# Altium schematic symbol library Cole_.SchLib: 330 symbols (part 9 of 10)
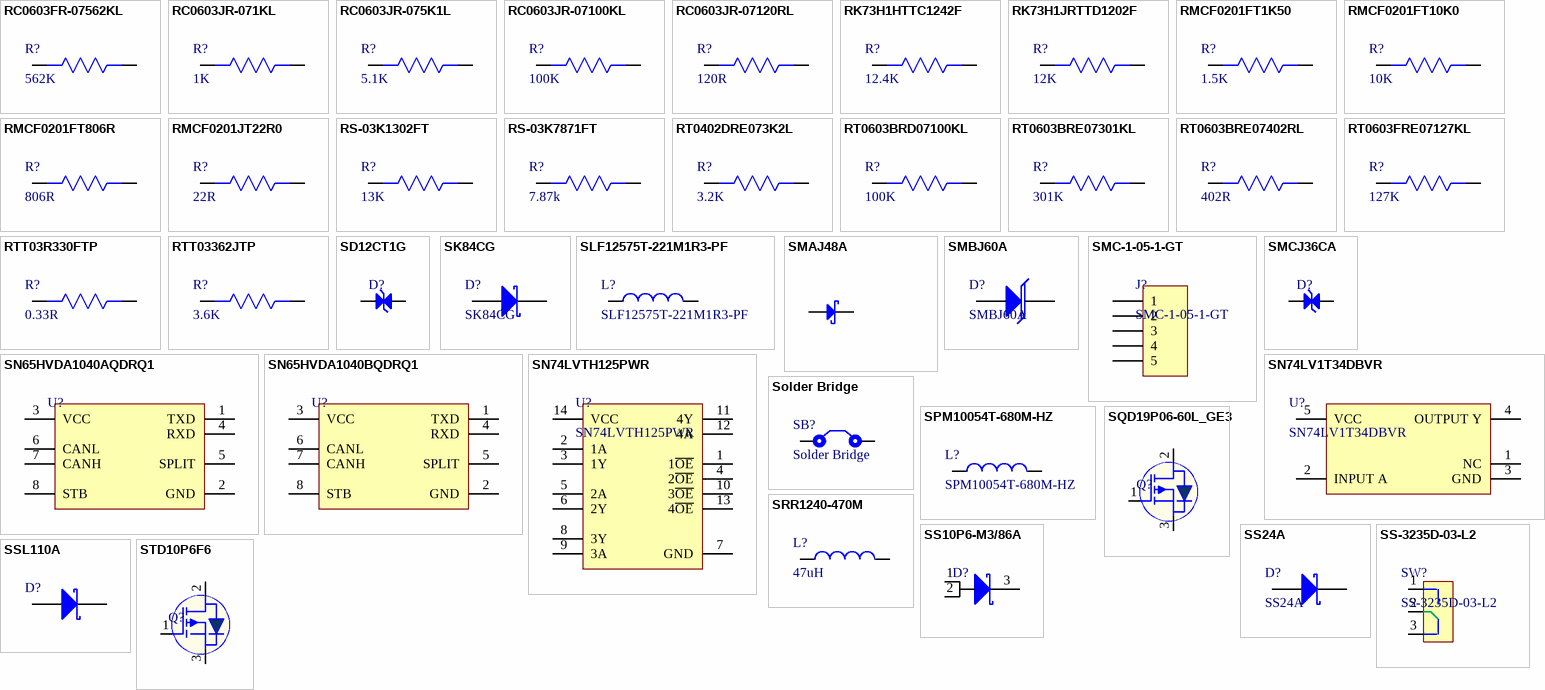
[diagram p16: symbols RC0603FR-07562KL to STD10P6F6]

## SN65HVDA1040BQDRQ1
designator U?
IC TRANSCEIVER 1/1 8SOIC; Manufacturer: Texas Instruments; Manufacturer Part Number: SN65HVDA1040BQDRQ1; Supplier 1: Digi-Key; RoHS: Yes; Stock 1: 1902; Pricing 1: 1=1.92000, 10=1.72800, 25=1.62960, 100=1.38850, 250=1.30380, 500=1.14082, 1000=1.02705 (USD); Supplier Part Number 1: 296-SN65HVDA1040BQDRQ1CT-ND
footprint SOIC-8
pins: 1 TXD, 2 GND, 3 VCC, 4 RXD, 5 SPLIT, 6 CANL, 7 CANH, 8 STB

## SN74LV1T34DBVR
designator U?
IC BUF NON-INVERT 5.5V SOT23-5; Manufacturer: Texas Instruments; Number of Elements: 1; Logic Function: Buffer,Inverting; High Level Output Current: -8mA; Low Level Output Current: 8mA; Min Supply Voltage: 1.6V; Polarity: Non-Inverting; Propagation Delay: 15.5ns; Quiescent Current: 1uA; Supplier 1: Digi-Key; Manufacturer Part Number: SN74LV1T34DBVR; Stock 1: 37360; Pricing 1: 1=0.43, 10=0.349, 25=0.3192, 100=0.2374, 250=0.2152, 500=0.17808, 1000=0.13356 (USD); Mount: Surface Mount; Case/Package: SOT-23-5; Number of Pins: 5; Weight: 0.000353oz; Min Operating Temperature: -40°C; Max Operating Temperature: 125°C; Packaging: Tape and Reel; Number of Bits per Element: 1; Number of Bits: 1; Package Quantity: 3000; Max Supply Voltage: 5.5V; Number of Input Lines: 1; Number of Output Lines: 1; Operating Supply Current: 8mA; Number of Channels: 1; Number of Inputs: 1; Number of Outputs: 1; Radiation Hardening: No; RoHS Compliant: Yes; REACH SVHC: No SVHC; Lead Free: Lead Free; ComponentLink1URL: http://www.ti.com/lit/pdf/sdyu001?src-supplier=Digi-Key; ComponentLink1Description: http://www.ti.com/lit/pdf/sdyu001?src-supplier=Digi-Key; ComponentLink2URL: http://www.ti.com/lit/ds/symlink/sn74lv1t34.pdf?src-supplier=Avnet; ComponentLink2Description: http://www.ti.com/lit/ds/symlink/sn74lv1t34.pdf?src-supplier=Avnet; Supplier Part Number 1: 296-37176-6-ND
footprint SOT-23-5
pins: 1 NC, 2 INPUT A, 3 GND, 4 OUTPUT Y, 5 VCC

## SN74LVTH125PWR
designator U?
IC BUS BUFFER TRI-ST QD 14TSSOP; Manufacturer: Texas Instruments; Logic Function: Buffer,Inverting; Polarity: Non-Inverting; Propagation Delay: 2.1ns; Min Supply Voltage: 2.7V; Max Supply Voltage: 3.6V; Number of Channels: 4; Operating Supply Voltage: 3.3V; Number of Bits per Element: 1; High Level Output Current: -32mA; Low Level Output Current: 64mA; Quiescent Current: 7mA; Number of Output Lines: 3; Supplier 1: Digi-Key; Manufacturer Part Number: SN74LVTH125PWR; RoHS: Yes; Category: Logic Gates; Stock 1: 980; Pricing 1: 1=0.64000, 10=0.56000, 25=0.52560, 100=0.42910, 250=0.39856, 500=0.33920, 1000=0.28000 (USD); Mount: Surface Mount; Case/Package: TSSOP; Number of Pins: 14; Contact Plating: Gold; Min Operating Temperature: -40°C; Max Operating Temperature: 85°C; Packaging: Tape and Reel; Number of Outputs: 4; Package Quantity: 2000; Number of Elements: 4; Turn-On Delay Time: 2.1ns; Number of Bits: 4; Number of Inputs: 4; Number of Input Lines: 4; Number of Gates: 4; Output Current: 64mA; Length: 5mm; Width: 4.4mm; Height: 1.15mm; Radiation Hardening: No; Lead Free: Lead Free; RoHS Compliant: Yes; REACH SVHC: No SVHC; ComponentLink1URL: https://datasheet.ciiva.com/41455/001017258-da-01-en-ic-bus-buf-q-sn74lvth125pwr-tssop-14-tid-41455824.pdf?src-supplier=Conrad; ComponentLink1Description: https://datasheet.ciiva.com/41455/001017258-da-01-en-ic-bus-buf-q-sn74lvth125pwr-tssop-14-tid-41455824.pdf?src-supplier=Conrad; ComponentLink2URL: https://datasheet.ciiva.com/46442/1764295-46442090.pdf?src-supplier=Element14; ComponentLink2Description: https://datasheet.ciiva.com/46442/1764295-46442090.pdf?src-supplier=Element14; ComponentLink3URL: https://datasheet.ciiva.com/1834/sn74lvth125-1834408.pdf?src-supplier=Digi-Key; ComponentLink3Description: https://datasheet.ciiva.com/1834/sn74lvth125-1834408.pdf?src-supplier=Digi-Key; ComponentLink4URL: https://datasheet.ciiva.com/1834/sn74lvth125-1834407.pdf?src-supplier=Digi-Key; ComponentLink4Description: https://datasheet.ciiva.com/1834/sn74lvth125-1834407.pdf?src-supplier=Digi-Key; ComponentLink5URL: https://datasheet.ciiva.com/7795/sn74lvth125-7795066.pdf?src-supplier=Element14; ComponentLink5Description: https://datasheet.ciiva.com/7795/sn74lvth125-7795066.pdf?src-supplier=Element14; ComponentLink6URL: https://datasheet.ciiva.com/14301/scbs703i-14301146.pdf?src-supplier=Avnet; ComponentLink6Description: https://datasheet.ciiva.com/14301/scbs703i-14301146.pdf?src-supplier=Avnet; ComponentLink7URL: https://datasheet.ciiva.com/26263/sn74lvth125-26263836.pdf?src-supplier=Avnet+Europe; ComponentLink7Description: https://datasheet.ciiva.com/26263/sn74lvth125-26263836.pdf?src-supplier=Avnet+Europe; Supplier Part Number 1: 296-8660-1-ND
footprint SN74LVTH125PWR
pins: 1 1~{OE}, 2 1A, 3 1Y, 4 2~{OE}, 5 2A, 6 2Y, 7 GND, 8 3Y, 9 3A, 10 3~{OE}, 11 4Y, 12 4A, 13 4~{OE}, 14 VCC

## Solder Bridge
designator SB?
Solder Bridge ON
footprint Solder Bridge (Solder Bridge ON)
pins: 1, 2

## SPM10054T-680M-HZ
designator L?
FIXED IND 68UH 3.7A 162.87MOHM; Manufacturer: TDK; Core Material: Metal; Tolerance: 20%; Saturation Current: 1.7A; Shielding: Shielded; DC Resistance (DCR): 162.87mR; Test Frequency: 100kHz; Supplier 1: Digi-Key; Manufacturer Part Number: SPM10054T-680M-HZ; RoHS: Yes; Category: Fixed Inductors; Stock 1: 883; Pricing 1: 1=2.75000, 10=2.54100, 25=2.32920, 50=1.99040, 100=1.77870, 250=1.52460 (USD); Mount: Surface Mount; Case/Package: Nonstandard; Min Operating Temperature: -40°C; Max Operating Temperature: 125°C; Resistor Type: Wirewound; Packaging: Cut Tape; Inductance: 68uH; Current Rating: 3.7A; Ratings: AEC-Q200; RoHS Compliant: Yes; ComponentLink1URL: https://product.tdk.com/info/en/catalog/datasheets/inductor_automotive_power_spm10054-hz_en.pdf?src-supplier=Digi-Key; ComponentLink1Description: https://product.tdk.com/info/en/catalog/datasheets/inductor_automotive_power_spm10054-hz_en.pdf?src-supplier=Digi-Key; Supplier Part Number 1: 445-180256-1-ND
footprint SPM10054T-680M-HZ
pins: 1, 2

## SQD19P06-60L_GE3
designator Q?
MOSFET P-CH 60V 20A TO252 /; Manufacturer: Vishay; Manufacturer Part Number: SQD19P06-60L_GE3; Description: P-Channel 60-V (D-S), 175C Mosfet Rohs Compliant: Yes |Vishay SQD19P06-60L_GE3; Supplier: Mouser; Supplier Part Number: 78-SQD19P06-60L_GE3; RoHS: No; Item Type: MOSFET; Stock: 12758; Pricing: 1=1.53, 10=1.25, 50=1.25, 100=0.979, 1000=0.676, 10000=0.578 (USD); ComponentLink1URL: https://datasheet.octopart.com/SQD19P06-60L_GE3-Vishay-datasheet-130066227.pdf?src-supplier=TME; ComponentLink1Description: https://datasheet.octopart.com/SQD19P06-60L_GE3-Vishay-datasheet-130066227.pdf?src-supplier=TME; LCSC Part Number: C143665
footprint DPAK
pins: 1 G, 2 D, 3 S

## SRR1240-470M
designator L?, comment 47uH
Fixed Inductors 47uH 20% SMD 1240; Manufacturer: Bourns; Manufacturer Part Number: SRR1240-470M; Core Material: Ferrite; Material: Steel; DC Resistance (DCR): 135mR; Max DC Current: 2A; Shielding: Shielded; Test Frequency: 100kHz; Self Resonant Frequency: 13MHz; Q Factor: 19; Saturation Current: 1.8A; Supplier 1: Digi-Key; RoHS: Yes; Category: Fixed Inductors; Stock 1: 1851; Pricing 1: 1=1.19000, 10=1.10800, 25=1.02320, 50=0.85240, 100=0.80140, 250=0.71608 (USD); Mount: Surface Mount; Case/Package: Nonstandard; Min Operating Temperature: -40°C; Max Operating Temperature: 125°C; Tolerance: 20%; Inductance: 47uH; Packaging: Cut Tape; Package Quantity: 800; Termination: SMD/SMT; Current Rating: 2A; Inductance Tolerance: 20%; DC Current: 2A; RMS Current (Irms): 2A; Series: SRR1240; Resistor Type: Wirewound; Frequency: 13MHz; Resistance: 135MR; Sample Rate (Hz): 100kHz; Length: 12.5mm; Width: 12.5mm; Height: 4mm; Depth: 12.8mm; Height - Seated (Max): 0.177inch; Radiation Hardening: No; REACH SVHC: No SVHC; Military Standard: Not; RoHS Compliant: Yes; ComponentLink1URL: https://datasheet.ciiva.com/3868/41848894s8818291n1506-3868048.pdf?src-supplier=Avnet; ComponentLink1Description: https://datasheet.ciiva.com/3868/41848894s8818291n1506-3868048.pdf?src-supplier=Avnet; ComponentLink2URL: https://datasheet.ciiva.com/11799/0900766b80defdec-11799974.pdf?src-supplier=RSComponents; ComponentLink2Description: https://datasheet.ciiva.com/11799/0900766b80defdec-11799974.pdf?src-supplier=RSComponents; ComponentLink3URL: https://datasheet.ciiva.com/1057/srr1240-1057428.pdf?src-supplier=Digi-Key; ComponentLink3Description: https://datasheet.ciiva.com/1057/srr1240-1057428.pdf?src-supplier=Digi-Key; ComponentLink4URL: https://datasheet.ciiva.com/1057/srr1240-1057429.pdf?src-supplier=Digi-Key; ComponentLink4Description: https://datasheet.ciiva.com/1057/srr1240-1057429.pdf?src-supplier=Digi-Key; ComponentLink5URL: https://datasheet.ciiva.com/7849/1481744-7849589.pdf?src-supplier=Element14; ComponentLink5Description: https://datasheet.ciiva.com/7849/1481744-7849589.pdf?src-supplier=Element14; ComponentLink6URL: https://datasheet.ciiva.com/48684/srr1240-48684791.pdf?src-supplier=Avnet; ComponentLink6Description: https://datasheet.ciiva.com/48684/srr1240-48684791.pdf?src-supplier=Avnet; ComponentLink7URL: https://datasheet.ciiva.com/6697/srr1240-6697676.pdf?src-supplier=Digi-Key; ComponentLink7Description: https://datasheet.ciiva.com/6697/srr1240-6697676.pdf?src-supplier=Digi-Key; ComponentLink8URL: https://datasheet.ciiva.com/4960/srr1240-33904-4960109.pdf?src-supplier=Mouser; ComponentLink8Description: https://datasheet.ciiva.com/4960/srr1240-33904-4960109.pdf?src-supplier=Mouser; ComponentLink9URL: https://datasheet.ciiva.com/41452/001056623-da-01-en-mag-abge-l-ind-srr1240-470m-47uh-2a-41452075.pdf?src-supplier=Conrad; ComponentLink9Description: https://datasheet.ciiva.com/41452/001056623-da-01-en-mag-abge-l-ind-srr1240-470m-47uh-2a-41452075.pdf?src-supplier=Conrad; Supplier Part Number 1: SRR1240-470MCT-ND
footprint SRR1240-470M
pins: 1, 2

## SS10P6-M3/86A
designator D?
DIODE SCHOTTKY 60V 7A TO277A; Manufacturer: Vishay; Manufacturer Part Number: SS10P6-M3/86A; Supplier: Mouser; Supplier Part Number: 625-SS10P6-M3; RoHS: No; Category: Rectifier Diodes; Stock: 6317; Pricing: 1=0.88, 10=0.757, 50=0.757, 100=0.604, 1000=0.385, 10000=0.315 (USD); ComponentLink1URL: https://datasheet.ciiva.com/8289/ss10p6-8289724.pdf?src-supplier=Avnet; ComponentLink1Description: https://datasheet.ciiva.com/8289/ss10p6-8289724.pdf?src-supplier=Avnet; ComponentLink2URL: https://datasheet.ciiva.com/16500/ss10p6-16500395.pdf?src-supplier=Future+Electronics; ComponentLink2Description: https://datasheet.ciiva.com/16500/ss10p6-16500395.pdf?src-supplier=Future+Electronics; ComponentLink3URL: https://datasheet.ciiva.com/18435/70217450-18435115.pdf?src-supplier=Allied+Electronics; ComponentLink3Description: https://datasheet.ciiva.com/18435/70217450-18435115.pdf?src-supplier=Allied+Electronics; ComponentLink4URL: https://datasheet.ciiva.com/7962/ss10p6-7962405.pdf?src-supplier=Element14; ComponentLink4Description: https://datasheet.ciiva.com/7962/ss10p6-7962405.pdf?src-supplier=Element14; ComponentLink5URL: https://datasheet.ciiva.com/13947/ss10p6-13947851.pdf?src-supplier=Digikey; ComponentLink5Description: https://datasheet.ciiva.com/13947/ss10p6-13947851.pdf?src-supplier=Digikey; ComponentLink6URL: https://datasheet.ciiva.com/13947/ss10p6-13947855.pdf?src-supplier=Digikey; ComponentLink6Description: https://datasheet.ciiva.com/13947/ss10p6-13947855.pdf?src-supplier=Digikey; LCSC Part Number: TO-277A; Item Type: Diode
footprint TO-277A
pins: 1 A, 2 A, 3 K

## SS24A
designator D?
40V 500mV@2A 2A SMA(DO-214AC) Schottky Barrier Diodes (SBD) ROHS; Manufacturer: Yangzhou; Manufacturer Part No: SS24A; Package: SMA(DO-214AC)
footprint SMA
pins: 1 K, 2 A

## SS-3235D-03-L2
designator SW?
SPDT 50mA @ 12VDC 12V On-On SMD Toggle Switches RoHS; Manufacturer: XKB Connectivity; Actuator Orientation: Vertical; Switch Height: 3mm; Actuator Type: Standard; Electrical Life Cycles: 10000; Operating Force: 200±100gf; Package: SMD; Circuit: SPDT; Contact Rating @ Voltage: 50mA @ 12VDC; Rated Voltage(DC): 12V; Mounting Type: Surface Mount; Contact Material: Brass; Contact Finish: Silver
footprint SS-3235D-03-L2 (SPDT 50mA @ 12VDC 12V On-On SMD Toggle Switches RoHS)
pins: 1 +, 2 +, 3 +

## SSL110A
designator D?
500μA@100V 100V Single 600mV@1A 1A SMA Schottky Barrier Diodes (SBD) ROHS; Manufacturer: Yangzhou; Manufacturer Part Number: SSL110A; Package: SMA
footprint SMA
pins: 1 K, 2 A

## STD10P6F6
designator Q?
MOSFET P CH 60V 10A DPAK; Manufacturer: STMicroelectronics; Manufacturer Part Number: STD10P6F6; Supplier: Mouser; Supplier Part Number: 511-STD10P6F6; RoHS: Yes; Category: MOSFETs; Stock: 73; Pricing: 1=1.13, 10=1.01, 50=1.01, 100=0.783, 500=0.647, 1000=0.511, 2500=0.477, 10000=0.477 (USD); ComponentLink1URL: https://datasheet.ciiva.com/13063/dm00051198-211735-13063452.pdf?src-supplier=Mouser; ComponentLink1Description: https://datasheet.ciiva.com/13063/dm00051198-211735-13063452.pdf?src-supplier=Mouser; ComponentLink2URL: https://datasheet.ciiva.com/6380/dm00051198-6380394.pdf?src-supplier=Digi-Key; ComponentLink2Description: https://datasheet.ciiva.com/6380/dm00051198-6380394.pdf?src-supplier=Digi-Key; ComponentLink3URL: https://datasheet.ciiva.com/6380/dm00051198-6380397.pdf?src-supplier=Digi-Key; ComponentLink3Description: https://datasheet.ciiva.com/6380/dm00051198-6380397.pdf?src-supplier=Digi-Key; ComponentLink4URL: https://datasheet.ciiva.com/16220/dm00051198-16220460.pdf?src-supplier=Future+Electronics; ComponentLink4Description: https://datasheet.ciiva.com/16220/dm00051198-16220460.pdf?src-supplier=Future+Electronics; LCSC Part Number: C457501; Item Type: MOSFET
footprint DPAK
pins: 1 G, 2 D, 3 S

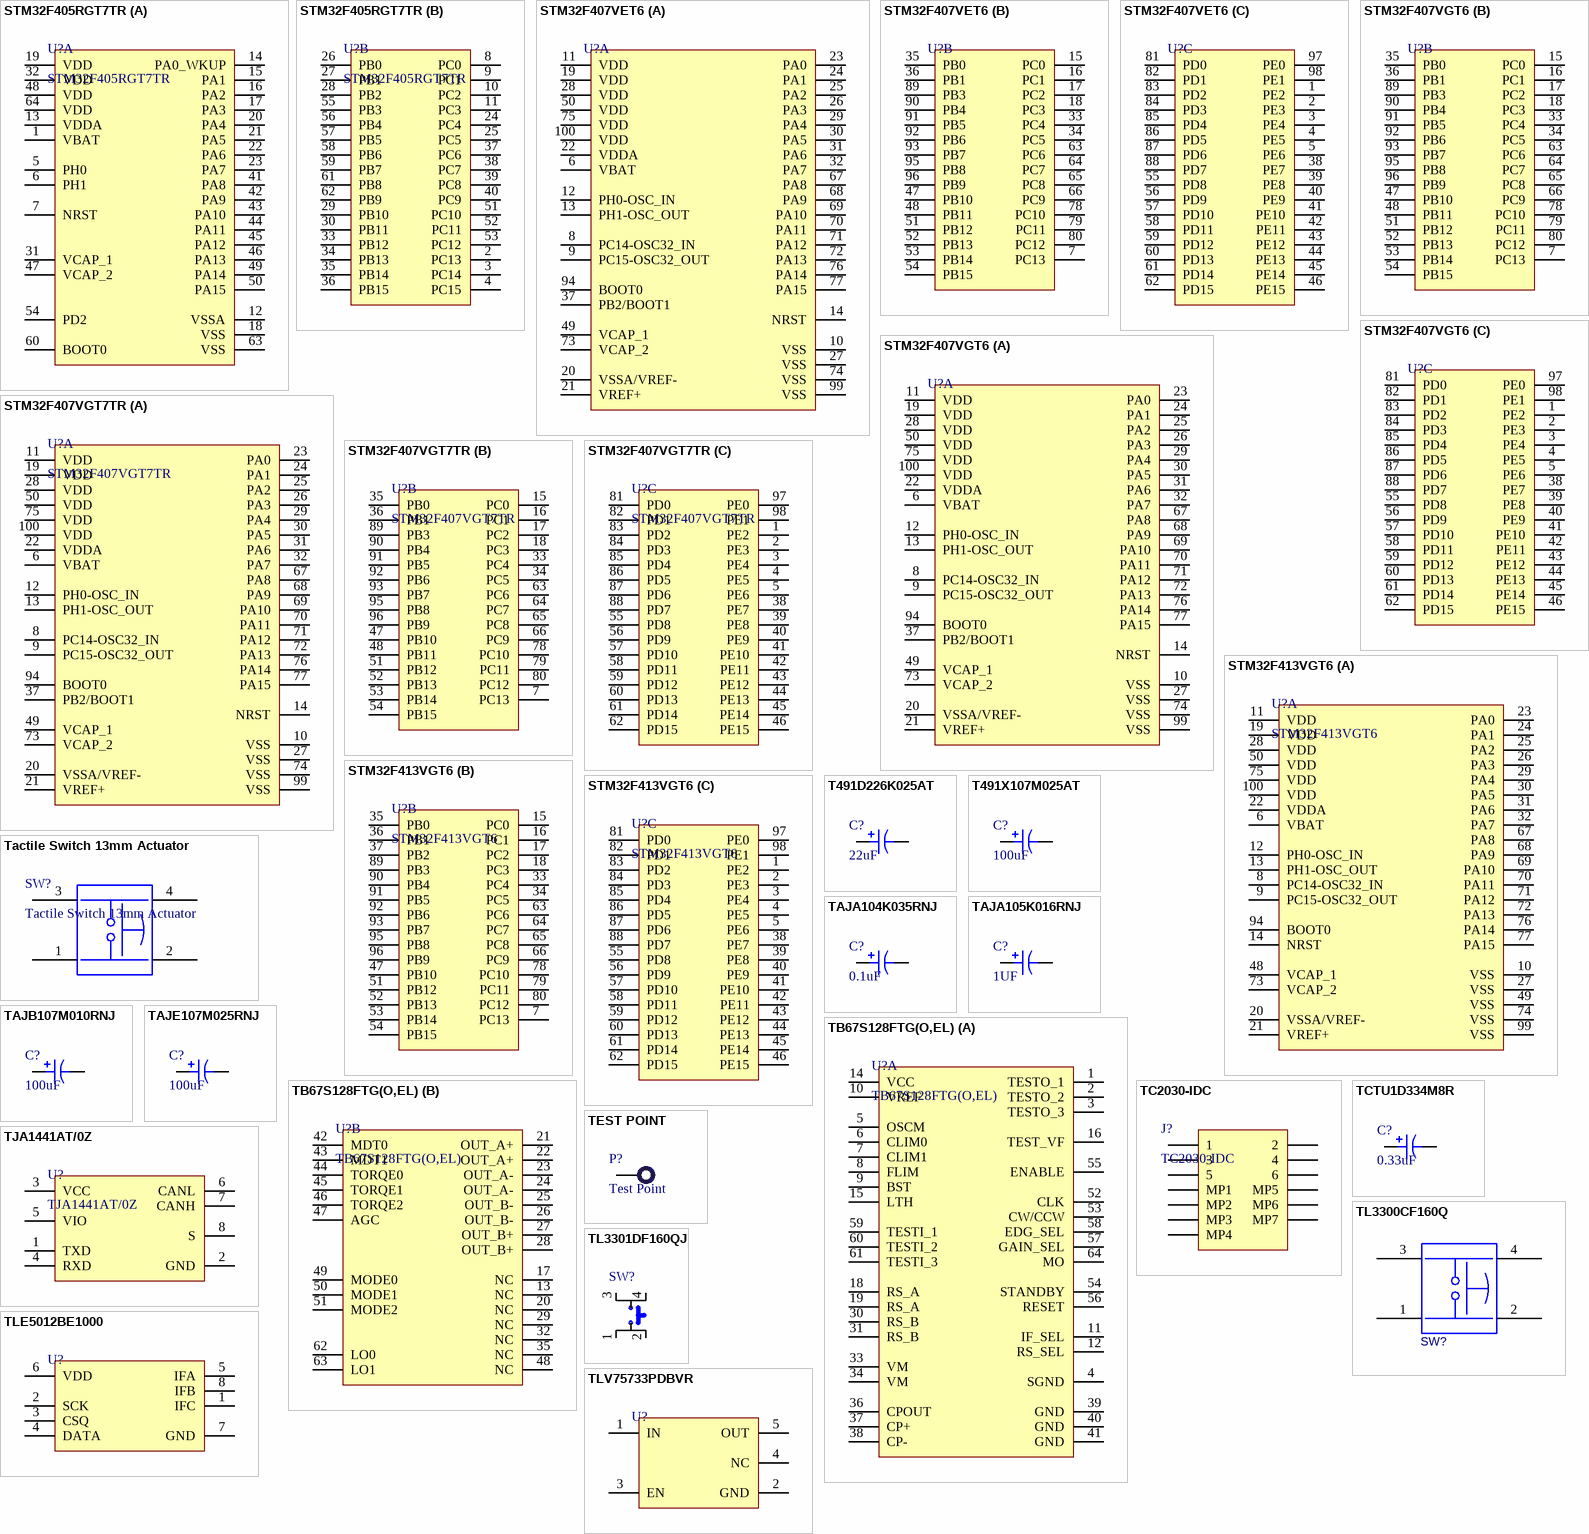
[diagram p7: symbols STM32F405RGT7TR to TLV75733PDBVR]

## STM32F405RGT7TR
designator U?
IC MCU 32BIT 1MB FLASH 64LQFP; Manufacturer: STMicroelectronics; Max Supply Voltage: 3.6V; Min Supply Voltage: 1.8V; Frequency: 168MHz; Interface: I2C,SPI,USB,CAN,IrDA,UART,USART,LIN; Number of I/Os: 51; Oscillator Type: Internal; Data Bus Width: 32b; RAM Size: 196KB; Number of ADC Channels: 24; Number of SPI Channels: 3; Number of Ethernet Channels: 1; Number of Timers/Counters: 17; Number of UART Channels: 2; Peripherals: Brown-out Detect/Reset,POR,PWM,WDT,DMA,LCD; Core Architecture: ARM; Supplier 1: Avnet; Manufacturer Part Number: STM32F405RGT7TR; RoHS: Yes; Category: Microcontrollers; Pricing 1: 1000=7.50723, 2000=7.31473, 4000=7.20474, 6000=7.09474, 8000=7.01225, 10000=6.87475, 100000=6.76475 (USD); Case/Package: LQFP; Number of Pins: 64; Packaging: Tape and Reel; Max Frequency: 168MHz; Operating Supply Voltage: 3.6V; Number of I2C Channels: 3; Memory Type: FLASH; Memory Size: 1MB; Length: 10mm; Width: 10mm; Height: 1.45mm; RoHS Compliant: Yes; ComponentLink1URL: http://www.mouser.com/ds/2/389/stm32f405rg-956214.pdf?src-supplier=Mouser; ComponentLink1Description: http://www.mouser.com/ds/2/389/stm32f405rg-956214.pdf?src-supplier=Mouser; ComponentLink2URL: http://www.st.com/st-web-ui/static/active/en/resource/technical/document/datasheet/DM00037051.pdf?src-supplier=Avnet; ComponentLink2Description: http://www.st.com/st-web-ui/static/active/en/resource/technical/document/datasheet/DM00037051.pdf?src-supplier=Avnet; ComponentLink3URL: http://www.st.com/content/ccc/resource/technical/document/datasheet/ef/92/76/6d/bb/c2/4f/f7/DM00037051.pdf/files/DM00037051.pdf/jcr:content/translations/en.DM00037051.pdf?src-supplier=Digi-Key; ComponentLink3Description: http://www.st.com/content/ccc/resource/technical/document/datasheet/ef/92/76/6d/bb/c2/4f/f7/DM00037051.pdf/files/DM00037051.pdf/jcr:content/translations/en.DM00037051.pdf?src-supplier=Digi-Key; Supplier Part Number 1: STM32F405RGT7TR
footprint LQFP64 (IC MCU 32BIT 256KB FLASH 64LQFP)
part A pins: 1 VBAT, 5 PH0, 6 PH1, 7 NRST, 12 VSSA, 13 VDDA, 14 PA0_WKUP, 15 PA1, 16 PA2, 17 PA3, 18 VSS, 19 VDD, 20 PA4, 21 PA5, 22 PA6, 23 PA7, 31 VCAP_1, 32 VDD, 41 PA8, 42 PA9, 43 PA10, 44 PA11, 45 PA12, 46 PA13, 47 VCAP_2, 48 VDD, 49 PA14, 50 PA15, 54 PD2, 60 BOOT0, 63 VSS, 64 VDD
part B pins: 2 PC13, 3 PC14, 4 PC15, 8 PC0, 9 PC1, 10 PC2, 11 PC3, 24 PC4, 25 PC5, 26 PB0, 27 PB1, 28 PB2, 29 PB10, 30 PB11, 33 PB12, 34 PB13, 35 PB14, 36 PB15, 37 PC6, 38 PC7, 39 PC8, 40 PC9, 51 PC10, 52 PC11, 53 PC12, 55 PB3, 56 PB4, 57 PB5, 58 PB6, 59 PB7, 61 PB8, 62 PB9

## STM32F407VET6
designator U?
IC MCU 32BIT 512KB FLASH 100LQFP; Manufacturer: STMicroelectronics; Manufacturer Part Number: STM32F407VET6; Frequency: 168MHz; Number of I/Os: 82; Interface: I2C,SPI,CAN,I2S,UART,USB,Ethernet,IrDA,USART,LIN,EBI/EMI; Oscillator Type: Internal; Peripherals: Brown-out Detect/Reset,POR,PWM,WDT,DMA,LCD,I2C; Core Architecture: ARM; RAM Size: 196KB; Number of ADC Channels: 16; Number of Ethernet Channels: 1; Number of Timers/Counters: 14; Number of UART Channels: 2; Max Supply Voltage: 3.6V; Min Supply Voltage: 1.8V; Data Bus Width: 32b; Number of SPI Channels: 3; Watchdog Timer: Yes; Supplier 1: Newark; RoHS: Yes; Category: Microcontrollers; Pricing 1: 1=16.05000, 10=14.76000, 25=14.15000, 50=13.31000, 100=12.47000 (USD); Case/Package: LQFP; Number of Pins: 100; Min Operating Temperature: -40°C; Max Operating Temperature: 85°C; Packaging: Tray; Memory Type: FLASH; Memory Size: 512KB; Package Quantity: 90; Number of Programmable I/O: 82; Max Frequency: 168MHz; Number of I2C Channels: 3; Series: STM32 F4; Number of PWM Channels: 2; Length: 14.2mm; Width: 14.2mm; Height: 1.45mm; Radiation Hardening: No; RoHS Compliant: Yes; REACH SVHC: No SVHC; Lead Free: Lead Free; ComponentLink1URL: https://datasheet.ciiva.com/16330/dm00037051-16330920.pdf?src-supplier=Future+Electronics; ComponentLink1Description: https://datasheet.ciiva.com/16330/dm00037051-16330920.pdf?src-supplier=Future+Electronics; ComponentLink2URL: https://datasheet.ciiva.com/8055/1717982-8055038.pdf?src-supplier=Element14; ComponentLink2Description: https://datasheet.ciiva.com/8055/1717982-8055038.pdf?src-supplier=Element14; ComponentLink3URL: https://datasheet.ciiva.com/4837/dm00037051-492832-4837637.pdf?src-supplier=Mouser; ComponentLink3Description: https://datasheet.ciiva.com/4837/dm00037051-492832-4837637.pdf?src-supplier=Mouser; Supplier Part Number 1: 73T7121
footprint LQFP-100
part A pins: 6 VBAT, 8 PC14-OSC32_IN, 9 PC15-OSC32_OUT, 10 VSS, 11 VDD, 12 PH0-OSC_IN, 13 PH1-OSC_OUT, 14 NRST, 19 VDD, 20 VSSA/VREF-, 21 VREF+, 22 VDDA, 23 PA0, 24 PA1, 25 PA2, 26 PA3, 27 VSS, 28 VDD, 29 PA4, 30 PA5, 31 PA6, 32 PA7, 37 PB2/BOOT1, 49 VCAP_1, 50 VDD, 67 PA8, 68 PA9, 69 PA10, 70 PA11, 71 PA12, 72 PA13, 73 VCAP_2, 74 VSS, 75 VDD, 76 PA14, 77 PA15, 94 BOOT0, 99 VSS, 100 VDD
part B pins: 7 PC13, 15 PC0, 16 PC1, 17 PC2, 18 PC3, 33 PC4, 34 PC5, 35 PB0, 36 PB1, 47 PB10, 48 PB11, 51 PB12, 52 PB13, 53 PB14, 54 PB15, 63 PC6, 64 PC7, 65 PC8, 66 PC9, 78 PC10, 79 PC11, 80 PC12, 89 PB3, 90 PB4, 91 PB5, 92 PB6, 93 PB7, 95 PB8, 96 PB9
part C pins: 1 PE2, 2 PE3, 3 PE4, 4 PE5, 5 PE6, 38 PE7, 39 PE8, 40 PE9, 41 PE10, 42 PE11, 43 PE12, 44 PE13, 45 PE14, 46 PE15, 55 PD8, 56 PD9, 57 PD10, 58 PD11, 59 PD12, 60 PD13, 61 PD14, 62 PD15, 81 PD0, 82 PD1, 83 PD2, 84 PD3, 85 PD4, 86 PD5, 87 PD6, 88 PD7, 97 PE0, 98 PE1

## STM32F407VGT6
designator U?
IC MCU 32BIT 1MB FLASH 100LQFP; Manufacturer: STMicroelectronics; Manufacturer Part Number: STM32F407VGT6; Core Architecture: ARM; Interface: I2C,SPI,CAN,I2S,UART,USB,Ethernet,IrDA,USART,LIN,EBI/EMI; Data Bus Width: 32b; Max Supply Voltage: 3.6V; Min Supply Voltage: 1.8V; Number of I/Os: 82; Frequency: 168MHz; RAM Size: 196KB; Oscillator Type: Internal; Memory Size: 1024KB; Peripherals: Brown-out Detect/Reset,POR,PWM,WDT,DMA,LCD,I2C; Number of Timers/Counters: 14; Watchdog Timer: Yes; Number of ADC Channels: 16; Number of PWM Channels: 2; Number of SPI Channels: 3; Number of Ethernet Channels: 1; Supplier 1: Newark; RoHS: Yes; Category: Microcontrollers; Pricing 1: 1=18.92000, 10=17.39000, 25=16.67000, 50=15.85000, 100=15.02000 (USD); Case/Package: LQFP; Number of Pins: 100; Min Operating Temperature: -40°C; Max Operating Temperature: 85°C; Package Quantity: 90; Packaging: Tray; Max Frequency: 168MHz; Memory Type: FLASH; Series: STM32 F4; Number of Programmable I/O: 82; Number of I2C Channels: 3; Number of UART Channels: 2; Address Bus Width: 32b; Length: 14.2mm; Width: 14.2mm; Height: 1.45mm; Radiation Hardening: No; REACH SVHC: No SVHC; Lead Free: Lead Free; RoHS Compliant: Yes; ComponentLink1URL: https://datasheet.ciiva.com/14132/stm32f407vgt6-tds-eng-14132567.pdf?src-supplier=Distrelec; ComponentLink1Description: https://datasheet.ciiva.com/14132/stm32f407vgt6-tds-eng-14132567.pdf?src-supplier=Distrelec; ComponentLink2URL: https://datasheet.ciiva.com/4842/dm00037051-492832-4842280.pdf?src-supplier=Mouser; ComponentLink2Description: https://datasheet.ciiva.com/4842/dm00037051-492832-4842280.pdf?src-supplier=Mouser; ComponentLink3URL: https://datasheet.ciiva.com/48687/001075599-da-01-en-mcu-32bt-1mb-stm32f407vgt6-lqfp-100-stm-48687547.pdf?src-supplier=Conrad; ComponentLink3Description: https://datasheet.ciiva.com/48687/001075599-da-01-en-mcu-32bt-1mb-stm32f407vgt6-lqfp-100-stm-48687547.pdf?src-supplier=Conrad; Supplier Part Number 1: 75T8335
footprint LQFP-100
part A pins: 6 VBAT, 8 PC14-OSC32_IN, 9 PC15-OSC32_OUT, 10 VSS, 11 VDD, 12 PH0-OSC_IN, 13 PH1-OSC_OUT, 14 NRST, 19 VDD, 20 VSSA/VREF-, 21 VREF+, 22 VDDA, 23 PA0, 24 PA1, 25 PA2, 26 PA3, 27 VSS, 28 VDD, 29 PA4, 30 PA5, 31 PA6, 32 PA7, 37 PB2/BOOT1, 49 VCAP_1, 50 VDD, 67 PA8, 68 PA9, 69 PA10, 70 PA11, 71 PA12, 72 PA13, 73 VCAP_2, 74 VSS, 75 VDD, 76 PA14, 77 PA15, 94 BOOT0, 99 VSS, 100 VDD
part B pins: 7 PC13, 15 PC0, 16 PC1, 17 PC2, 18 PC3, 33 PC4, 34 PC5, 35 PB0, 36 PB1, 47 PB10, 48 PB11, 51 PB12, 52 PB13, 53 PB14, 54 PB15, 63 PC6, 64 PC7, 65 PC8, 66 PC9, 78 PC10, 79 PC11, 80 PC12, 89 PB3, 90 PB4, 91 PB5, 92 PB6, 93 PB7, 95 PB8, 96 PB9
part C pins: 1 PE2, 2 PE3, 3 PE4, 4 PE5, 5 PE6, 38 PE7, 39 PE8, 40 PE9, 41 PE10, 42 PE11, 43 PE12, 44 PE13, 45 PE14, 46 PE15, 55 PD8, 56 PD9, 57 PD10, 58 PD11, 59 PD12, 60 PD13, 61 PD14, 62 PD15, 81 PD0, 82 PD1, 83 PD2, 84 PD3, 85 PD4, 86 PD5, 87 PD6, 88 PD7, 97 PE0, 98 PE1

## STM32F407VGT7TR
designator U?
IC MCU 32BIT 1MB FLASH 100LQFP; Manufacturer: STMicroelectronics; RAM Size: 196KB; Max Power Dissipation: 465mW; Interface: I2C,SPI,USB,CAN,Ethernet,IrDA,UART,USART,LIN,EBI/EMI,I2S; Number of I/Os: 82; Number of Timers/Counters: 14; Frequency: 168MHz; Oscillator Type: Internal; Data Bus Width: 32b; Watchdog Timer: Yes; Peripherals: Brown-out Detect/Reset,POR,PWM,WDT,DMA,LCD; Core Architecture: ARM; Supplier 1: Avnet; Manufacturer Part Number: STM32F407VGT7TR; RoHS: Yes; Category: Microcontrollers; Pricing 1: 1000=8.54203, 2000=8.32301, 4000=8.19785, 6000=8.07269, 8000=7.97882, 10000=7.82238, 100000=7.69722 (USD); Case/Package: LQFP; Number of Pins: 100; Min Operating Temperature: -40°C; Max Operating Temperature: 105°C; Packaging: Tape and Reel; Number of Programmable I/O: 82; Max Frequency: 168MHz; Memory Type: FLASH; Memory Size: 1MB; Radiation Hardening: No; RoHS Compliant: Yes; ComponentLink1URL: https://datasheet.ciiva.com/48494/dm00037051-48494023.pdf?src-supplier=Avnet; ComponentLink1Description: https://datasheet.ciiva.com/48494/dm00037051-48494023.pdf?src-supplier=Avnet; Supplier Part Number 1: STM32F407VGT7TR
footprint LQFP-100
part A pins: 6 VBAT, 8 PC14-OSC32_IN, 9 PC15-OSC32_OUT, 10 VSS, 11 VDD, 12 PH0-OSC_IN, 13 PH1-OSC_OUT, 14 NRST, 19 VDD, 20 VSSA/VREF-, 21 VREF+, 22 VDDA, 23 PA0, 24 PA1, 25 PA2, 26 PA3, 27 VSS, 28 VDD, 29 PA4, 30 PA5, 31 PA6, 32 PA7, 37 PB2/BOOT1, 49 VCAP_1, 50 VDD, 67 PA8, 68 PA9, 69 PA10, 70 PA11, 71 PA12, 72 PA13, 73 VCAP_2, 74 VSS, 75 VDD, 76 PA14, 77 PA15, 94 BOOT0, 99 VSS, 100 VDD
part B pins: 7 PC13, 15 PC0, 16 PC1, 17 PC2, 18 PC3, 33 PC4, 34 PC5, 35 PB0, 36 PB1, 47 PB10, 48 PB11, 51 PB12, 52 PB13, 53 PB14, 54 PB15, 63 PC6, 64 PC7, 65 PC8, 66 PC9, 78 PC10, 79 PC11, 80 PC12, 89 PB3, 90 PB4, 91 PB5, 92 PB6, 93 PB7, 95 PB8, 96 PB9
part C pins: 1 PE2, 2 PE3, 3 PE4, 4 PE5, 5 PE6, 38 PE7, 39 PE8, 40 PE9, 41 PE10, 42 PE11, 43 PE12, 44 PE13, 45 PE14, 46 PE15, 55 PD8, 56 PD9, 57 PD10, 58 PD11, 59 PD12, 60 PD13, 61 PD14, 62 PD15, 81 PD0, 82 PD1, 83 PD2, 84 PD3, 85 PD4, 86 PD5, 87 PD6, 88 PD7, 97 PE0, 98 PE1

## STM32F413VGT6
designator U?
IC MCU 32BIT 1MB FLASH 100LQFP; Manufacturer: STMicroelectronics; Interface: I2C,SPI,USB,IrDA,MMC,SDIO,UART,USART,EBI/EMI; Peripherals: Brown-out Detect/Reset,POR,PWM,WDT,DMA,LCD; Core Architecture: ARM; Frequency: 100MHz; Number of I/Os: 81; Oscillator Type: Internal; Supplier 1: Digi-Key; Manufacturer Part Number: STM32F413VGT6; RoHS: Yes; Category: Microcontrollers; Stock 1: 440; Pricing 1: 1=13.11000, 10=11.84200, 25=11.29160, 90=9.80444, 270=9.36381, 450=8.53758, 990=8.03268 (USD); Case/Package: LQFP; Min Operating Temperature: -40°C; Max Operating Temperature: 85°C; Memory Type: FLASH; Packaging: Tray; Memory Size: 1MB; RoHS Compliant: Yes; ComponentLink1URL: https://4donline.ihs.com/images/VipMasterIC/IC/SGST/SGST-S-A0003533273/SGST-S-A0003533273-1.pdf?hkey=52A5661711E402568146F3353EA87419&src-supplier=Newark; ComponentLink1Description: https://4donline.ihs.com/images/VipMasterIC/IC/SGST/SGST-S-A0003533273/SGST-S-A0003533273-1.pdf?hkey=52A5661711E402568146F3353EA87419&src-supplier=Newark; ComponentLink2URL: https://4donline.ihs.com/images/VipMasterIC/IC/SGST/SGST-S-A0003533273/SGST-S-A0003533273-1.pdf?hkey=52A5661711E402568146F3353EA87419&src-supplier=Farnell; ComponentLink2Description: https://4donline.ihs.com/images/VipMasterIC/IC/SGST/SGST-S-A0003533273/SGST-S-A0003533273-1.pdf?hkey=52A5661711E402568146F3353EA87419&src-supplier=Farnell; ComponentLink3URL: http://www.farnell.com/datasheets/2581760.pdf?src-supplier=Element14; ComponentLink3Description: http://www.farnell.com/datasheets/2581760.pdf?src-supplier=Element14; ComponentLink4URL: http://www.st.com/content/ccc/resource/technical/document/datasheet/group3/f6/1d/4a/d9/f9/96/43/2a/DM00282249/files/DM00282249.pdf/jcr:content/translations/en.DM00282249.pdf?src-supplier=Digi-Key; ComponentLink4Description: http://www.st.com/content/ccc/resource/technical/document/datasheet/group3/f6/1d/4a/d9/f9/96/43/2a/DM00282249/files/DM00282249.pdf/jcr:content/translations/en.DM00282249.pdf?src-supplier=Digi-Key; Supplier Part Number 1: 497-17009-ND
footprint LQFP-100
part A pins: 6 VBAT, 8 PC14-OSC32_IN, 9 PC15-OSC32_OUT, 10 VSS, 11 VDD, 12 PH0-OSC_IN, 13 PH1-OSC_OUT, 14 NRST, 19 VDD, 20 VSSA/VREF-, 21 VREF+, 22 VDDA, 23 PA0, 24 PA1, 25 PA2, 26 PA3, 27 VSS, 28 VDD, 29 PA4, 30 PA5, 31 PA6, 32 PA7, 48 VCAP_1, 49 VSS, 50 VDD, 67 PA8, 68 PA9, 69 PA10, 70 PA11, 71 PA12, 72 PA13, 73 VCAP_2, 74 VSS, 75 VDD, 76 PA14, 77 PA15, 94 BOOT0, 99 VSS, 100 VDD
part B pins: 7 PC13, 15 PC0, 16 PC1, 17 PC2, 18 PC3, 33 PC4, 34 PC5, 35 PB0, 36 PB1, 37 PB2, 47 PB10, 51 PB12, 52 PB13, 53 PB14, 54 PB15, 63 PC6, 64 PC7, 65 PC8, 66 PC9, 78 PC10, 79 PC11, 80 PC12, 89 PB3, 90 PB4, 91 PB5, 92 PB6, 93 PB7, 95 PB8, 96 PB9
part C pins: 1 PE2, 2 PE3, 3 PE4, 4 PE5, 5 PE6, 38 PE7, 39 PE8, 40 PE9, 41 PE10, 42 PE11, 43 PE12, 44 PE13, 45 PE14, 46 PE15, 55 PD8, 56 PD9, 57 PD10, 58 PD11, 59 PD12, 60 PD13, 61 PD14, 62 PD15, 81 PD0, 82 PD1, 83 PD2, 84 PD3, 85 PD4, 86 PD5, 87 PD6, 88 PD7, 97 PE0, 98 PE1

## T491D226K025AT
designator C?, comment 22uF
CAP TANT 22UF 10% 25V 2917; Manufacturer: KEMET; Manufacturer Part Number: T491D226K025AT; Item Type: Capacitor; Supplier: Mouser; Supplier Part Number: 80-T491D226K025; RoHS: Yes; Category: Tantalum Capacitors; Stock: 36974; Pricing: 1=0.91, 10=0.726, 50=0.726, 100=0.571, 1000=0.38, 10000=0.38 (USD); ComponentLink1URL: https://datasheet.ciiva.com/259/kem-t2005-t491-259364.pdf?src-supplier=Digi-Key; ComponentLink1Description: https://datasheet.ciiva.com/259/kem-t2005-t491-259364.pdf?src-supplier=Digi-Key; ComponentLink2URL: https://datasheet.ciiva.com/11793/0900766b80718482-11793157.pdf?src-supplier=Rs; ComponentLink2Description: https://datasheet.ciiva.com/11793/0900766b80718482-11793157.pdf?src-supplier=Rs; ComponentLink3URL: https://datasheet.ciiva.com/26341/458366-da-01-en-tantal-kondensator-t491d226k025at-26341617.pdf?src-supplier=Conrad; ComponentLink3Description: https://datasheet.ciiva.com/26341/458366-da-01-en-tantal-kondensator-t491d226k025at-26341617.pdf?src-supplier=Conrad; ComponentLink4URL: https://datasheet.ciiva.com/39123/kem-t2005-t491-39123293.pdf?src-supplier=Onlinecomponents.com; ComponentLink4Description: https://datasheet.ciiva.com/39123/kem-t2005-t491-39123293.pdf?src-supplier=Onlinecomponents.com; ComponentLink5URL: https://datasheet.ciiva.com/14588/70095774-14588351.pdf?src-supplier=Allied+Electronics; ComponentLink5Description: https://datasheet.ciiva.com/14588/70095774-14588351.pdf?src-supplier=Allied+Electronics; ComponentLink6URL: https://datasheet.ciiva.com/259/kem-t2005-t491-259365.pdf?src-supplier=Digi-Key; ComponentLink6Description: https://datasheet.ciiva.com/259/kem-t2005-t491-259365.pdf?src-supplier=Digi-Key; ComponentLink7URL: https://datasheet.ciiva.com/259/kem-t2005-t491-259366.pdf?src-supplier=Digi-Key; ComponentLink7Description: https://datasheet.ciiva.com/259/kem-t2005-t491-259366.pdf?src-supplier=Digi-Key; ComponentLink8URL: https://datasheet.ciiva.com/7758/1446014-7758973.pdf?src-supplier=Element14; ComponentLink8Description: https://datasheet.ciiva.com/7758/1446014-7758973.pdf?src-supplier=Element14; ComponentLink9URL: https://datasheet.ciiva.com/7758/1446014-7758974.pdf?src-supplier=Element14; ComponentLink9Description: https://datasheet.ciiva.com/7758/1446014-7758974.pdf?src-supplier=Element14; ComponentLink10URL: https://datasheet.ciiva.com/7758/1698764-7758975.pdf?src-supplier=Element14; ComponentLink10Description: https://datasheet.ciiva.com/7758/1698764-7758975.pdf?src-supplier=Element14; ComponentLink11URL: https://datasheet.ciiva.com/12882/kem-t2005-t491-12882922.pdf?src-supplier=Mouser; ComponentLink11Description: https://datasheet.ciiva.com/12882/kem-t2005-t491-12882922.pdf?src-supplier=Mouser; ComponentLink12URL: https://datasheet.ciiva.com/8079/kem-t2005-t491-8079803.pdf?src-supplier=Element14; ComponentLink12Description: https://datasheet.ciiva.com/8079/kem-t2005-t491-8079803.pdf?src-supplier=Element14; ComponentLink13URL: https://datasheet.ciiva.com/5934/kem-t2005-t491-5934829.pdf?src-supplier=Farnell; ComponentLink13Description: https://datasheet.ciiva.com/5934/kem-t2005-t491-5934829.pdf?src-supplier=Farnell; LCSC Part Number: C122303
footprint Case-D
pins: 1, 2

## T491X107M025AT
designator C?, comment 100uF
CAP TANT 100UF 20% 25V 2917; Manufacturer: KEMET; Manufacturer Part Number: T491X107M025AT; Item Type: Capacitor; Supplier: Mouser; Supplier Part Number: 80-T491X107M025; RoHS: Yes; Category: Tantalum Capacitors; Stock: 32528; Pricing: 1=2.41, 10=1.95, 50=1.7, 100=1.49, 1000=0.959, 10000=0.877 (USD); ComponentLink1URL: https://datasheet.ciiva.com/22690/1778337-22690475.pdf?src-supplier=Element14; ComponentLink1Description: https://datasheet.ciiva.com/22690/1778337-22690475.pdf?src-supplier=Element14; ComponentLink2URL: https://datasheet.ciiva.com/6229/datasheetpn-t491x107m025at-6229394.pdf?src-supplier=Digi-Key; ComponentLink2Description: https://datasheet.ciiva.com/6229/datasheetpn-t491x107m025at-6229394.pdf?src-supplier=Digi-Key; ComponentLink3URL: https://datasheet.ciiva.com/6229/kem-t2005-t491-6229398.pdf?src-supplier=Digi-Key; ComponentLink3Description: https://datasheet.ciiva.com/6229/kem-t2005-t491-6229398.pdf?src-supplier=Digi-Key; ComponentLink4URL: https://datasheet.ciiva.com/6229/kem-t2005-t491-6229401.pdf?src-supplier=Digi-Key; ComponentLink4Description: https://datasheet.ciiva.com/6229/kem-t2005-t491-6229401.pdf?src-supplier=Digi-Key; LCSC Part Number: C127835
footprint CAP- 2917
pins: 1, 2

## Tactile Switch 13mm Actuator
designator SW?
Memontary Tactile Push Button Switch 6X6X4.3 / 4.5 / 5/6/7/8/9/10 / 13mm SMD; Manufacturer: WIN ELEC-TECH CO., LTD; Manufacturer Part No: Custum; Package: Custom; Link: https://pl.aliexpress.com/item/4001356961226.html?spm=a2g0o.productlist.0.0.7081462a6lheLU&algo_pvid=c376c5b0-041a-41a5-8550-ffd48044eb94&algo_exp_id=c376c5b0-041a-41a5-8550-ffd48044eb94-0
footprint Tactile Switch 13mm Actuator
pins: 1, 2, 3, 4

## TAJA104K035RNJ
designator C?, comment 0.1uF
CAP TANT 0.1UF 10% 35V 1206; Supplier 1: RSComponents; Supplier Part Number 1: 1360116
footprint CAP-CASE A
pins: 1, 2

## TAJA105K016RNJ
designator C?, comment 1UF
CAP TANT 1UF 10% 16V 1206; Manufacturer: Kyocera AVX; Manufacturer Part Number: TAJA105K016RNJ; Dielectric Material: Tantalum; Tolerance: 20%; ESR (Equivalent Series Resistance): 11R; Polarity: Polar; Leakage Current: 500nA; Dissipation Factor: 4%; Supplier 1: Arrow Electronics; RoHS: Yes; Category: Tantalum Capacitors; Stock 1: 1933; Pricing 1: 1=0.35550, 10=0.26530, 25=0.25530, 100=0.16440, 250=0.14790, 500=0.10860, 1000=0.10750 (USD); Mount: Surface Mount,PCB; Case/Package: 1206; Number of Pins: 2; Case Code (Metric): 3216; Case Code (Imperial): 1206; Weight: 0.000571oz; Min Operating Temperature: -55°C; Max Operating Temperature: 125°C; Capacitance: 1uF; Voltage Rating (DC): 16V; Packaging: Tape and Reel; Package Quantity: 1; Voltage Rating: 16V; Termination: SMD/SMT; Voltage: 16V; Features: General Purpose; Series: TAJ; Length: 3.2mm; Width: 1.6mm; Height: 1.6mm; Height - Seated (Max): 0.071inch; Depth: 1.6mm; Lead Pitch: 1.1mm; Radiation Hardening: No; REACH SVHC: No SVHC; Lead Free: Lead Free; RoHS Compliant: Yes; ComponentLink1URL: https://datasheet.ciiva.com/18710/taj-eng-18710647.pdf?src-supplier=Distrelec; ComponentLink1Description: https://datasheet.ciiva.com/18710/taj-eng-18710647.pdf?src-supplier=Distrelec; ComponentLink2URL: https://datasheet.ciiva.com/7832/taj-7832811.pdf?src-supplier=Element14; ComponentLink2Description: https://datasheet.ciiva.com/7832/taj-7832811.pdf?src-supplier=Element14; ComponentLink3URL: https://datasheet.ciiva.com/7832/taj-7832810.pdf?src-supplier=Element14; ComponentLink3Description: https://datasheet.ciiva.com/7832/taj-7832810.pdf?src-supplier=Element14; ComponentLink4URL: https://datasheet.ciiva.com/7832/1680476-7832431.pdf?src-supplier=Element14; ComponentLink4Description: https://datasheet.ciiva.com/7832/1680476-7832431.pdf?src-supplier=Element14; ComponentLink5URL: https://datasheet.ciiva.com/263/taj-263410.pdf?src-supplier=Digi-Key; ComponentLink5Description: https://datasheet.ciiva.com/263/taj-263410.pdf?src-supplier=Digi-Key; ComponentLink6URL: https://datasheet.ciiva.com/263/taj-263409.pdf?src-supplier=Digi-Key; ComponentLink6Description: https://datasheet.ciiva.com/263/taj-263409.pdf?src-supplier=Digi-Key; ComponentLink7URL: https://datasheet.ciiva.com/263/taj-263411.pdf?src-supplier=Digi-Key; ComponentLink7Description: https://datasheet.ciiva.com/263/taj-263411.pdf?src-supplier=Digi-Key; ComponentLink8URL: https://datasheet.ciiva.com/7832/1703059-7832429.pdf?src-supplier=Element14; ComponentLink8Description: https://datasheet.ciiva.com/7832/1703059-7832429.pdf?src-supplier=Element14; ComponentLink9URL: https://datasheet.ciiva.com/7832/1703059-7832430.pdf?src-supplier=Element14; ComponentLink9Description: https://datasheet.ciiva.com/7832/1703059-7832430.pdf?src-supplier=Element14; Supplier Part Number 1: TAJA105K016RNJ
footprint CAP-CASE A
pins: 1, 2

## TAJB107M010RNJ
designator C?, comment 100uF
CAP TANT 100UF 20% 10V 1411; Manufacturer: Kyocera AVX; Manufacturer Part Number: TAJB107M010RNJ; Dielectric Material: Tantalum; Tolerance: 10%; ESR (Equivalent Series Resistance): 1.4R; Leakage Current: 10uA; Polarity: Polar; Dissipation Factor: 8%; Supplier 1: Avnet; RoHS: Yes; Category: Tantalum Capacitors; Stock 1: 12000; Pricing 1: 2000=0.19575, 4000=0.18900, 8000=0.18225, 12000=0.17550, 16000=0.16875, 20000=0.16200, 200000=0.15525 (USD); Mount: Surface Mount; Case/Package: 1210; Case Code (Imperial): 1210; Case Code (Metric): 3528; Min Operating Temperature: -55°C; Max Operating Temperature: 125°C; Capacitance: 100uF; Voltage Rating: 10V; Package Quantity: 1; Packaging: Tape and Reel; Termination: SMD/SMT; Voltage Rating (DC): 10V; Voltage: 10V; Features: General Purpose; Series: TAJ; Construction: Flat; Length: 3.5mm; Width: 2.8mm; Height: 2.1mm; Depth: 2.8mm; Height - Seated (Max): 0.083inch; Radiation Hardening: No; REACH SVHC: No SVHC; Lead Free: Lead Free; RoHS Compliant: Yes; ComponentLink1URL: https://datasheet.ciiva.com/16485/taj-16485909.pdf?src-supplier=Avnet+Asia; ComponentLink1Description: https://datasheet.ciiva.com/16485/taj-16485909.pdf?src-supplier=Avnet+Asia; ComponentLink2URL: https://datasheet.ciiva.com/264/taj-264280.pdf?src-supplier=Digi-Key; ComponentLink2Description: https://datasheet.ciiva.com/264/taj-264280.pdf?src-supplier=Digi-Key; ComponentLink3URL: https://datasheet.ciiva.com/264/taj-264281.pdf?src-supplier=Digi-Key; ComponentLink3Description: https://datasheet.ciiva.com/264/taj-264281.pdf?src-supplier=Digi-Key; ComponentLink4URL: https://datasheet.ciiva.com/25913/taj-25913356.pdf?src-supplier=Avnet+Europe; ComponentLink4Description: https://datasheet.ciiva.com/25913/taj-25913356.pdf?src-supplier=Avnet+Europe; ComponentLink5URL: https://datasheet.ciiva.com/264/taj-264282.pdf?src-supplier=Digi-Key; ComponentLink5Description: https://datasheet.ciiva.com/264/taj-264282.pdf?src-supplier=Digi-Key; ComponentLink6URL: https://datasheet.ciiva.com/11225/taj-11225963.pdf?src-supplier=Avnet; ComponentLink6Description: https://datasheet.ciiva.com/11225/taj-11225963.pdf?src-supplier=Avnet; ComponentLink7URL: https://datasheet.ciiva.com/11225/taj-11225964.pdf?src-supplier=Avnet; ComponentLink7Description: https://datasheet.ciiva.com/11225/taj-11225964.pdf?src-supplier=Avnet; Supplier Part Number 1: TAJB107M010RNJ
footprint TAJB107M010RNJ
pins: 1, 2

## TAJE107M025RNJ
designator C?, comment 100uF
CAP TANT 100UF 20% 25V 2917; Manufacturer: Kyocera AVX; Manufacturer Part Number: TAJE107M025RNJ; ESR (Equivalent Series Resistance): 300mR; Leakage Current: 25uA; Polarity: Polar; Dissipation Factor: 10%; Supplier 1: Mouser; RoHS: Yes; Category: Tantalum Capacitors; Stock 1: 109; Pricing 1: 1=2.81000, 10=2.81000, 50=2.81000, 100=2.19000, 1000=1.76000, 10000=1.76000 (USD); Mount: Surface Mount; Case/Package: 2917; Number of Pins: 2; Case Code (Imperial): 2917; Case Code (Metric): 7343; Min Operating Temperature: -55°C; Max Operating Temperature: 125°C; Capacitance: 100uF; Tolerance: 20%; Packaging: Tape and Reel; Voltage Rating: 25V; Voltage Rating (DC): 25V; Features: General Purpose; Package Quantity: 1; Termination: SMD/SMT; Series: TAJ; Construction: Flat; Length: 7.3mm; Width: 4.3mm; Height: 4.3mm; Depth: 4.3mm; Height - Seated (Max): 0.169inch; Radiation Hardening: No; Lead Free: Lead Free; RoHS Compliant: Yes; REACH SVHC: No SVHC; ComponentLink1URL: https://datasheet.ciiva.com/26787/taje107m025rnj-26787048.pdf?src-supplier=IIIC; ComponentLink1Description: https://datasheet.ciiva.com/26787/taje107m025rnj-26787048.pdf?src-supplier=IIIC; ComponentLink2URL: https://datasheet.ciiva.com/265/taj-265541.pdf?src-supplier=Digi-Key; ComponentLink2Description: https://datasheet.ciiva.com/265/taj-265541.pdf?src-supplier=Digi-Key; ComponentLink3URL: https://datasheet.ciiva.com/265/taj-265542.pdf?src-supplier=Digi-Key; ComponentLink3Description: https://datasheet.ciiva.com/265/taj-265542.pdf?src-supplier=Digi-Key; ComponentLink4URL: https://datasheet.ciiva.com/265/taj-265540.pdf?src-supplier=Digi-Key; ComponentLink4Description: https://datasheet.ciiva.com/265/taj-265540.pdf?src-supplier=Digi-Key; ComponentLink5URL: https://datasheet.ciiva.com/28609/1719052-28609254.pdf?src-supplier=Element14; ComponentLink5Description: https://datasheet.ciiva.com/28609/1719052-28609254.pdf?src-supplier=Element14; ComponentLink6URL: https://datasheet.ciiva.com/11230/taj-11230456.pdf?src-supplier=Avnet; ComponentLink6Description: https://datasheet.ciiva.com/11230/taj-11230456.pdf?src-supplier=Avnet; ComponentLink7URL: https://datasheet.ciiva.com/17339/taj-17339677.pdf?src-supplier=Avnet+Europe; ComponentLink7Description: https://datasheet.ciiva.com/17339/taj-17339677.pdf?src-supplier=Avnet+Europe; ComponentLink8URL: https://datasheet.ciiva.com/22667/1719052-22667581.pdf?src-supplier=Element14; ComponentLink8Description: https://datasheet.ciiva.com/22667/1719052-22667581.pdf?src-supplier=Element14; Supplier Part Number 1: 581-TAJE107M025RNJ
footprint CAP- 2917
pins: 1, 2

## TB67S128FTG(O,EL)
designator U?
IC MTR DRVR BIPOLAR 0-5.5V 64QFN; Manufacturer: Toshiba; Supplier 1: Digi-Key; Manufacturer Part Number: TB67S128FTG(O,EL); RoHS: No; Stock 1: 2653; Pricing 1: 1=8.07000, 10=7.29300, 25=6.95360, 100=6.03780, 250=5.76640, 500=5.25760, 1000=4.80000 (USD); Supplier Part Number 1: TB67S128FTG(OEL)CT-ND
footprint 64-VQFN (9x9)
part A pins: 1 TESTO_1, 2 TESTO_2, 3 TESTO_3, 4 SGND, 5 OSCM, 6 CLIM0, 7 CLIM1, 8 FLIM, 9 BST, 10 VREF, 11 IF_SEL, 12 RS_SEL, 14 VCC, 15 LTH, 16 TEST_VF, 18 RS_A, 19 RS_A, 30 RS_B, 31 RS_B, 33 VM, 34 VM, 36 CPOUT, 37 CP+, 38 CP-, 39 GND, 40 GND, 41 GND, 52 CLK, 53 CW/CCW, 54 STANDBY, 55 ENABLE, 56 RESET, 57 GAIN_SEL, 58 EDG_SEL, 59 TESTI_1, 60 TESTI_2, 61 TESTI_3, 64 MO
part B pins: 13 NC, 17 NC, 20 NC, 21 OUT_A+, 22 OUT_A+, 23 OUT_A-, 24 OUT_A-, 25 OUT_B-, 26 OUT_B-, 27 OUT_B+, 28 OUT_B+, 29 NC, 32 NC, 35 NC, 42 MDT0, 43 MDT1, 44 TORQE0, 45 TORQE1, 46 TORQE2, 47 AGC, 48 NC, 49 MODE0, 50 MODE1, 51 MODE2, 62 LO0, 63 LO1

## TC2030-IDC
designator J?
CABLE ADAPTER 6 POS; Manufacturer: Tag-Connect; ComponentLink1URL: http://www.tag-connect.com/Materials/TC2030-MCP%20Datasheet.pdf?src-supplier=Digi-Key; ComponentLink1Description: http://www.tag-connect.com/Materials/TC2030-MCP%20Datasheet.pdf?src-supplier=Digi-Key; Supplier 1: Digi-Key; Manufacturer Part Number: TC2030-IDC; Stock 1: 284; Pricing 1: 1=43.71 (USD); Package Quantity: 1; Supplier Part Number 1: TC2030-IDC-ND
footprint TC2030-IDC (CABLE ADAPTER 6 POS)
pins: 1, 2, 3, 4, 5, 6, MP1, MP2, MP3, MP4, MP5, MP6, MP7

## TCTU1D334M8R
designator C?, comment 0.33uF
CAP TANT 0.33UF 20% 20V 0402; Manufacturer: Rohm; Manufacturer Part Number: TCTU1D334M8R; Capacitance: 330nF; Leakage Current: 700nA; Supplier 1: Digi-Key; RoHS: Yes; Category: Tantalum Capacitors; Stock 1: 8314; Pricing 1: 1=0.52000, 10=0.36800, 50=0.27800, 100=0.24220, 500=0.17940, 1000=0.15249, 2500=0.14352, 5000=0.13455 (USD); Mount: Surface Mount; Case/Package: 0402; Case Code (Metric): 1005; Case Code (Imperial): 0402; Min Operating Temperature: -55°C; Max Operating Temperature: 125°C; Package Quantity: 10000; Packaging: Tape and Reel; Tolerance: 20%; Voltage Rating: 20V; Termination: SMD/SMT; Dissipation Factor: 20%; Voltage Rating (DC): 20V; Features: General Purpose; Length: 0.039inch; Width: 0.5mm; Height: 0.6mm; Height - Seated (Max): 0.024inch; Lead Free: Lead Free; RoHS Compliant: Yes; ComponentLink1URL: https://datasheet.ciiva.com/29503/tct-u-29503913.pdf?src-supplier=Digi-Key; ComponentLink1Description: https://datasheet.ciiva.com/29503/tct-u-29503913.pdf?src-supplier=Digi-Key; ComponentLink2URL: https://datasheet.ciiva.com/29503/tct-u-29503914.pdf?src-supplier=Digi-Key; ComponentLink2Description: https://datasheet.ciiva.com/29503/tct-u-29503914.pdf?src-supplier=Digi-Key; ComponentLink3URL: https://datasheet.ciiva.com/29503/tct-u-29503915.pdf?src-supplier=Digi-Key; ComponentLink3Description: https://datasheet.ciiva.com/29503/tct-u-29503915.pdf?src-supplier=Digi-Key; Supplier Part Number 1: 511-1684-1-ND
footprint Tant-Cap-0402
pins: 1, 2

## TEST POINT
designator P?, comment Test Point
Test Point ON
footprint TEST POINT
pins: 1

## TJA1441AT/0Z
designator U?
HIGH-SPEED CAN TRANSCEIVER WITH; Manufacturer: NXP Semiconductors; Supplier 1: Avnet; Manufacturer Part Number: TJA1441AT/0Z; Pricing 1: 10000=0.46137, 15000=0.44310, 25000=0.43044, 50000=0.42095, 100000=0.40512, 500000=0.39721, 1000000=0.38930 (USD); Supplier Part Number 1: TJA1441AT/0Z
footprint SOIC-8
pins: 1 TXD, 2 GND, 3 VCC, 4 RXD, 5 VIO, 6 CANL, 7 CANH, 8 S

## TL3300CF160Q
designator SW?, comment Tactile Switch  (value not drawn)
SWITCH TACTILE SPST-NO 0.05A 12V; Manufacturer: E-Switch; Manufacturer Part Number: TL3300CF160Q; Mechanical Life: 200000Cycles; Operating Force: 160gf; Current Rating: 50mA; Throw Configuration: SPST; Contact Resistance: 100mR; Illumination Type: Non-Illuminated; Switch Travel: 0.35mm; Switch Function: Off-Mom; Actuator Type: Standard; Actuator Length: 5mm; Supplier 1: Mouser; Stock 1: 1884; Pricing 1: 1=0.53, 10=0.513, 50=0.43, 100=0.393, 1000=0.293, 10000=0.274 (USD); Mount: Surface Mount; Case/Package: SMD/SMT; Contact Plating: Silver; Min Operating Temperature: -25°C; Max Operating Temperature: 70°C; Package Quantity: 1; Packaging: Tape and Reel; Voltage Rating (DC): 12V; Max Voltage Rating (DC): 12V; Termination: Gull Wing; Electrical Life: 200000Cycles; Orientation: Straight; Series: TL3300; Lead Free: Lead Free; RoHS Compliant: Yes; ComponentLink1URL: http://www.e-switch.com/system/asset/product_line/data_sheet/157/TL3300.pdf?src-supplier=Digi-Key; ComponentLink1Description: http://www.e-switch.com/system/asset/product_line/data_sheet/157/TL3300.pdf?src-supplier=Digi-Key; ComponentLink2URL: http://spec_sheets.e-switch.com/specs/N301102.pdf?src-supplier=Digi-Key; ComponentLink2Description: http://spec_sheets.e-switch.com/specs/N301102.pdf?src-supplier=Digi-Key; Supplier Part Number 1: 612-TL3300CF160Q
footprint TL3300CF160Q (SWITCH TACTILE SPST-NO 0.05A 12V)
pins: 1, 2, 3, 4

## TL3301DF160QJ
designator SW?
SWITCH TACTILE SPST-NO 0.05A 12V; Manufacturer: E-Switch; Manufacturer Part Number: TL3301DF160QJ; Item Type: Tactile Switch; Supplier: Digi-Key; Supplier Part Number: EG5464CT-ND; RoHS: Yes; Category: Tactile Switches; Stock: 3310; Pricing: 1=0.53, 10=0.515, 25=0.4964, 100=0.4295 (USD); ComponentLink1URL: https://datasheet.ciiva.com/16156/j100617-16156328.pdf?src-supplier=Onlinecomponents.com; ComponentLink1Description: https://datasheet.ciiva.com/16156/j100617-16156328.pdf?src-supplier=Onlinecomponents.com; ComponentLink2URL: https://datasheet.ciiva.com/16370/j100617-16370167.pdf?src-supplier=Future+Electronics; ComponentLink2Description: https://datasheet.ciiva.com/16370/j100617-16370167.pdf?src-supplier=Future+Electronics; ComponentLink3URL: https://datasheet.ciiva.com/2902/tl3301-2902785.pdf?src-supplier=Digi-Key; ComponentLink3Description: https://datasheet.ciiva.com/2902/tl3301-2902785.pdf?src-supplier=Digi-Key; LCSC Part Number: C273524
footprint TL3301DF160QJ_
pins: 1, 2, 3, 4

## TLE5012BE1000
designator U?
SENSOR ANGLE 360DEG SMD; Manufacturer: Infineon; Manufacturer Part Number: TLE5012BE1000; Interface: SPI; Supplier 1: RSComponents; RoHS: Yes; Category: Magnetic Sensors; Stock 1: 1; Pricing 1: 10=6.13600, 100=5.33500, 250=5.04900, 500=4.90100, 1000=4.77700 (USD); Case/Package: SOIC; Number of Pins: 8; Package Quantity: 2500; Packaging: Tape and Reel; RoHS Compliant: Yes; REACH SVHC: No SVHC; Supplier Part Number 1: 1702338
footprint PG-DSO-8
pins: 1 IFC, 2 SCK, 3 CSQ, 4 DATA, 5 IFA, 6 VDD, 7 GND, 8 IFB

## TLV75733PDBVR
designator U?
IC REG LINEAR 3.3V 1A SOT23-5; Manufacturer: Texas Instruments; Manufacturer Part Number: TLV75733PDBVR; Output Type: Fixed; Capacitance: 33nF; Tolerance: 20%; Voltage Rating: 50V; Output Configuration: Positive; Number of Regulators: 1; Max Input Voltage: 5.5V; Dropout Voltage: 475mV; Max Supply Current: 40uA; Power Supply Rejection Ratio (PSRR): 52dB; Supplier 1: Mouser; RoHS: Yes; Category: Voltage Regulators - Linear; Pricing 1: 1=0.68000, 10=0.58100, 50=0.58100, 100=0.40300, 500=0.34100, 1000=0.26400, 3000=0.23900, 10000=0.23900 (USD); Mount: Surface Mount; Case/Package: 1206; Min Operating Temperature: -40°C; Max Operating Temperature: 125°C; Packaging: Tape and Reel; Min Output Voltage: 3.3V; Output Current: 1A; Ratings: AEC-Q200; RoHS Compliant: Yes; ComponentLink1URL: http://www.ti.com/lit/ds/symlink/tlv757p.pdf?src-supplier=Digi-Key; ComponentLink1Description: http://www.ti.com/lit/ds/symlink/tlv757p.pdf?src-supplier=Digi-Key; Supplier Part Number 1: 595-TLV75733PDBVR
footprint SOT-23-5
pins: 1 IN, 2 GND, 3 EN, 4 NC, 5 OUT

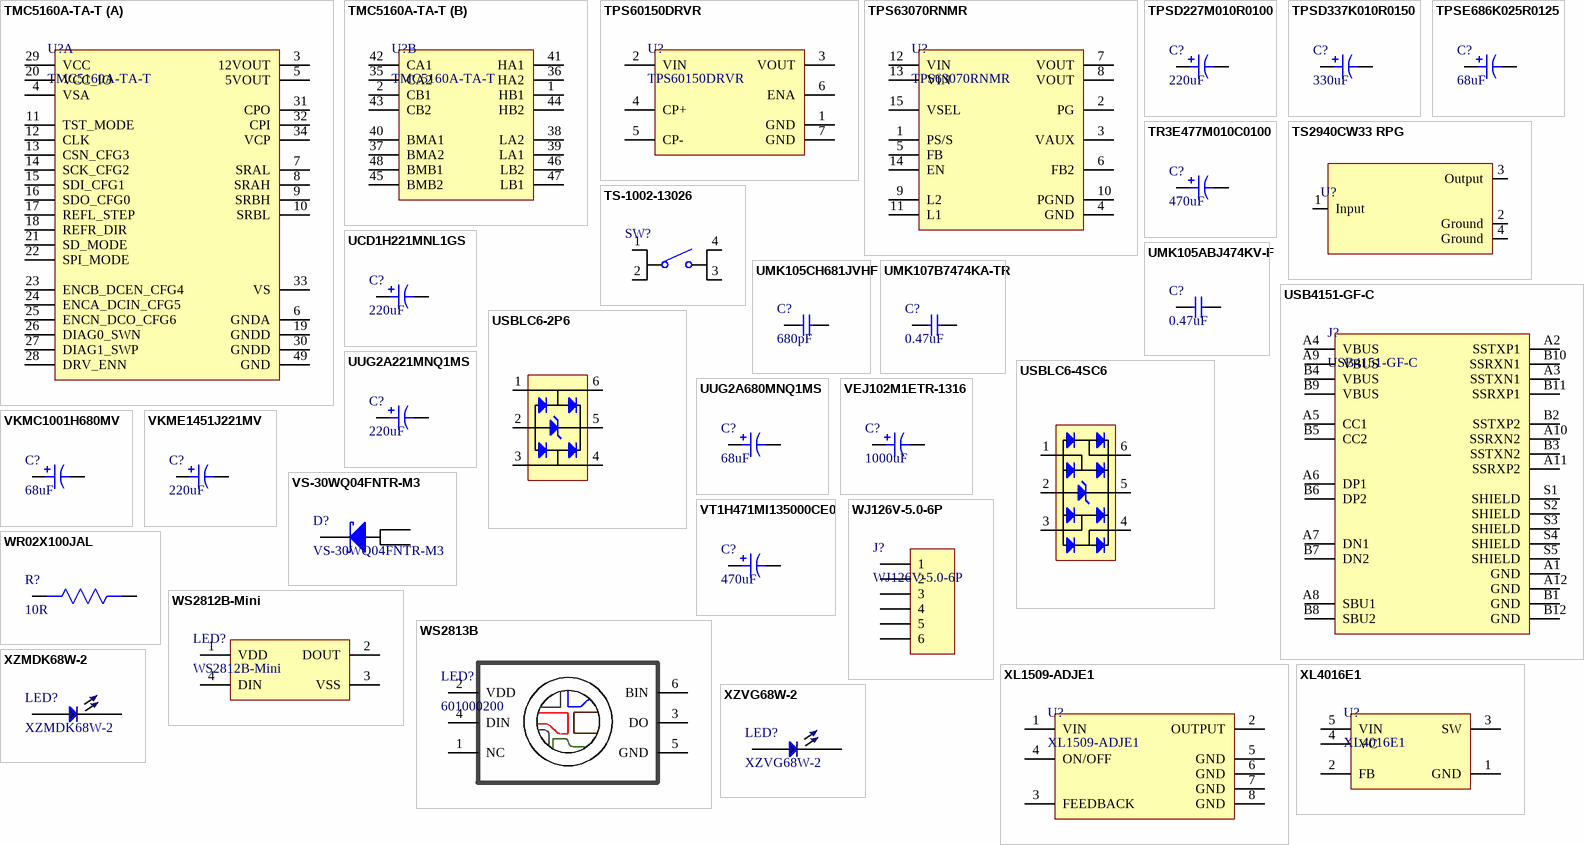
[diagram p8: symbols TMC5160A-TA-T to XZVG68W-2]

## TMC5160A-TA-T
designator U?
IC MTR DRVR BIPOLAR 8-60V 48TQFP; Manufacturer: Trinamic; Supplier 1: Digi-Key; Manufacturer Part Number: TMC5160A-TA-T; RoHS: Yes; Stock 1: 15584; Pricing 1: 1=6.83000, 10=6.13000, 25=5.79560, 100=5.02280, 250=4.76524, 500=4.27582, 1000=3.64500 (USD); Supplier Part Number 1: 1460-TMC5160A-TA-TCT-ND
footprint 48-tqfp-ep (7x7)
part A pins: 3 12VOUT, 4 VSA, 5 5VOUT, 6 GNDA, 7 SRAL, 8 SRAH, 9 SRBH, 10 SRBL, 11 TST_MODE, 12 CLK, 13 CSN_CFG3, 14 SCK_CFG2, 15 SDI_CFG1, 16 SDO_CFG0, 17 REFL_STEP, 18 REFR_DIR, 19 GNDD, 20 VCC_IO, 21 SD_MODE, 22 SPI_MODE, 23 ENCB_DCEN_CFG4, 24 ENCA_DCIN_CFG5, 25 ENCN_DCO_CFG6, 26 DIAG0_SWN, 27 DIAG1_SWP, 28 DRV_ENN, 29 VCC, 30 GNDD, 31 CPO, 32 CPI, 33 VS, 34 VCP, 49 GND
part B pins: 1 HB1, 2 CB1, 35 CA2, 36 HA2, 37 BMA2, 38 LA2, 39 LA1, 40 BMA1, 41 HA1, 42 CA1, 43 CB2, 44 HB2, 45 BMB2, 46 LB2, 47 LB1, 48 BMB1